# EAGLE library part ESP32-PICO-D4 (library ESP32-PICO-D4)
Bluetooth, WiFi 802.11b/g/n, Bluetooth v4.2 +EDR, Class 1, 2 and 3 Transceiver Module 2.4GHz ~ 2.5GHz Surface Mount Check availability <https://pricing.snapeda.com/parts/ESP32-PICO-D4/Espressif%20Systems/view-part?ref=eda>
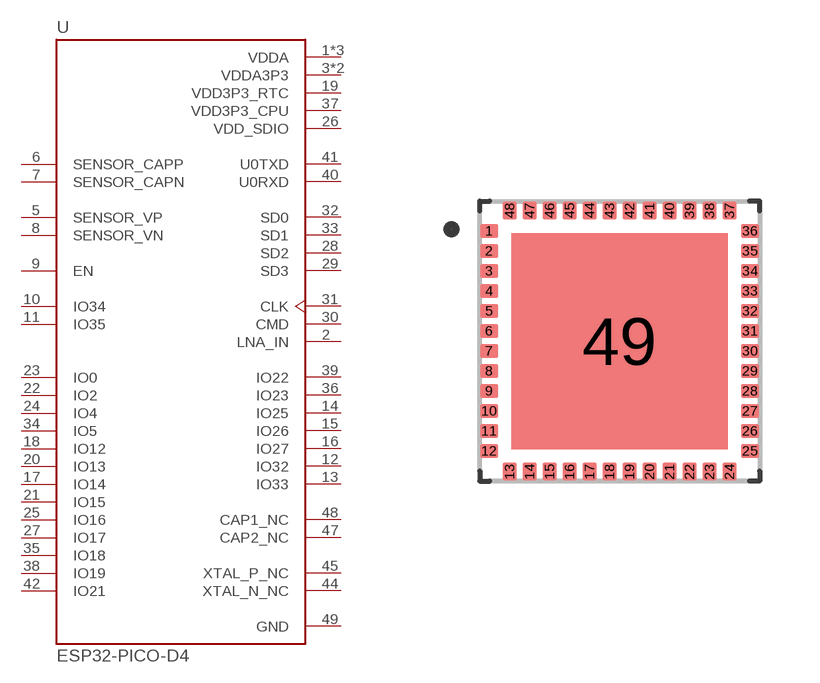
[diagram p0: symbol with the pads of PQFN50P700X700X104-49N; footprint PQFN50P700X700X104-49N]

Designator prefix U

## ESP32-PICO-D4 (Availability: In Stock; Description: Bluetooth, WiFi 802.11b/g/n, Bluetooth v4.2 +EDR, Class 1, 2 and 3 Transceiver Module 2.4GHz ~ 2.5GHz - Surface Mount; MF: Espressif Systems; MP: ESP32-PICO-D4; Package: SMD-48 Espressif Systems; Price: None; Purchase-URL: https://pricing.snapeda.com/search/part/ESP32-PICO-D4/?ref=eda)  [PQFN50P700X700X104-49N]
1  VDDA  pwr
2  LNA_IN
3  VDDA3P3  pwr
4  VDDA3P3  pwr
5  SENSOR_VP  in
6  SENSOR_CAPP  in
7  SENSOR_CAPN  in
8  SENSOR_VN  in
9  EN  in
10  IO34  in
11  IO35  in
12  IO32
13  IO33
14  IO25
15  IO26
16  IO27
17  IO14
18  IO12
19  VDD3P3_RTC  pwr
20  IO13
21  IO15
22  IO2
23  IO0
24  IO4
25  IO16
26  VDD_SDIO  pwr
27  IO17
28  SD2
29  SD3
30  CMD
31  CLK
32  SD0
33  SD1
34  IO5
35  IO18
36  IO23
37  VDD3P3_CPU  pwr
38  IO19
39  IO22
40  U0RXD
41  U0TXD
42  IO21
43  VDDA  pwr
44  XTAL_N_NC  nc
45  XTAL_P_NC  nc
46  VDDA  pwr
47  CAP2_NC  nc
48  CAP1_NC  nc
49  GND  pwr

## Footprint PQFN50P700X700X104-49N (pad centres in mm)
smd 0.45 x 0.35: 1 -3.265,2.75; 2 -3.265,2.25; 3 -3.265,1.75; 4 -3.265,1.25; 5 -3.265,0.75; 6 -3.265,0.25; 7 -3.265,-0.25; 8 -3.265,-0.75; 9 -3.265,-1.25; 10 -3.265,-1.75; 11 -3.265,-2.25; 12 -3.265,-2.75; 25 3.265,-2.75; 26 3.265,-2.25; 27 3.265,-1.75; 28 3.265,-1.25; 29 3.265,-0.75; 30 3.265,-0.25; 31 3.265,0.25; 32 3.265,0.75; 33 3.265,1.25; 34 3.265,1.75; 35 3.265,2.25; 36 3.265,2.75
smd 0.35 x 0.45: 13 -2.75,-3.265; 14 -2.25,-3.265; 15 -1.75,-3.265; 16 -1.25,-3.265; 17 -0.75,-3.265; 18 -0.25,-3.265; 19 0.25,-3.265; 20 0.75,-3.265; 21 1.25,-3.265; 22 1.75,-3.265; 23 2.25,-3.265; 24 2.75,-3.265; 37 2.75,3.265; 38 2.25,3.265; 39 1.75,3.265; 40 1.25,3.265; 41 0.75,3.265; 42 0.25,3.265; 43 -0.25,3.265; 44 -0.75,3.265; 45 -1.25,3.265; 46 -1.75,3.265; 47 -2.25,3.265; 48 -2.75,3.265
smd 5.4 x 5.4: 49 0,0